# Altium footprint library WE-HCF_2818.PcbLib: 1 footprints
Each footprint in its own frame and in the unit in brackets; x right, y up, seen from the top. Pads: shape width x height; smd on the part's side, far side on the other; paste and mask are expansions set on the pad; w line width, h text height; cw(c..) or ccw(c..) is an arc to the next point about the centre after c.
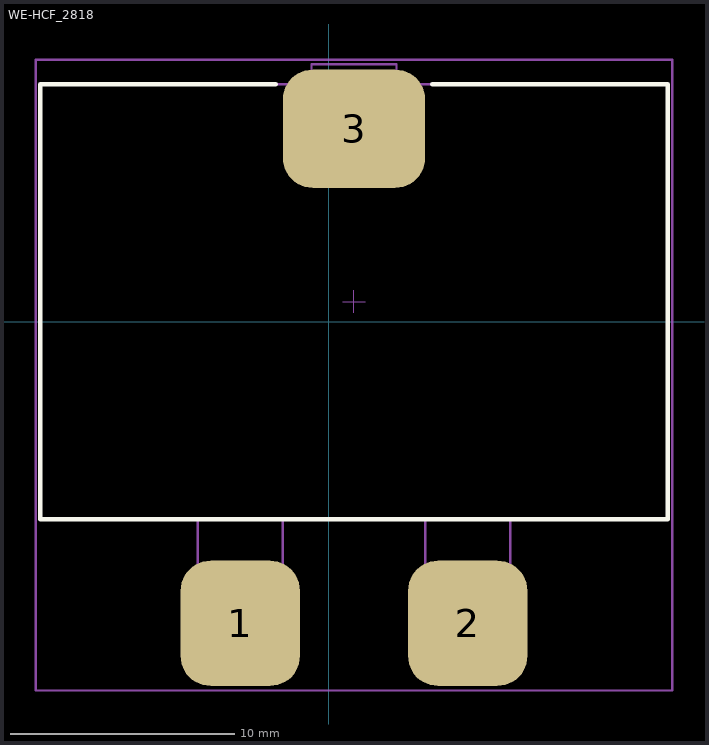
[diagram p0: the footprint, top view; thin cyan lines are the x and y axes]

## WE-HCF_2818 [mm]
pads (3):
  rrect50% 5.33x5.59 smd: 1(-3.956,-13.466) 2(6.194,-13.466)
  rrect50% 6.35x5.28 smd: 3(1.119,8.609)
Top Overlay:
  lines w0.2: -2.381,10.589 -12.881,10.589 -12.881,-8.811 15.119,-8.811 15.119,10.589 4.619,10.589
Top Assembly:
  lines w0.1: -5.856,-8.811 -5.856,-15.511 -2.056,-15.511 -2.056,-8.811 ; -0.781,10.589 -0.781,11.489 3.019,11.489 3.019,10.589 ; 4.294,-8.811 4.294,-15.511 8.094,-15.511 8.094,-8.811 ; -12.881,-8.811 -12.881,10.589 15.119,10.589 15.119,-8.811 -12.881,-8.811
Top Courtyard:
  lines w0.05: 0.619,0.889 1.619,0.889 ; 1.119,0.389 1.119,1.389
  lines w0.1: -13.081,-16.461 -13.081,11.689 15.319,11.689 15.319,-16.461 -13.081,-16.461
3D body "744364xxxx.stp": height 18.55, standoff 0.03, extent -12.881,-15.511 15.119,11.489